# EAGLE library part PCA9685 (library adafruit)
PCA9685 - 16 Channel 12-Bit I2C PWM Controller 5.0V tolerant 16 channel, 12-bit I2C PWM controller with 25mA per output (max. 400mA total) Digikey: 568-5931-1-ND
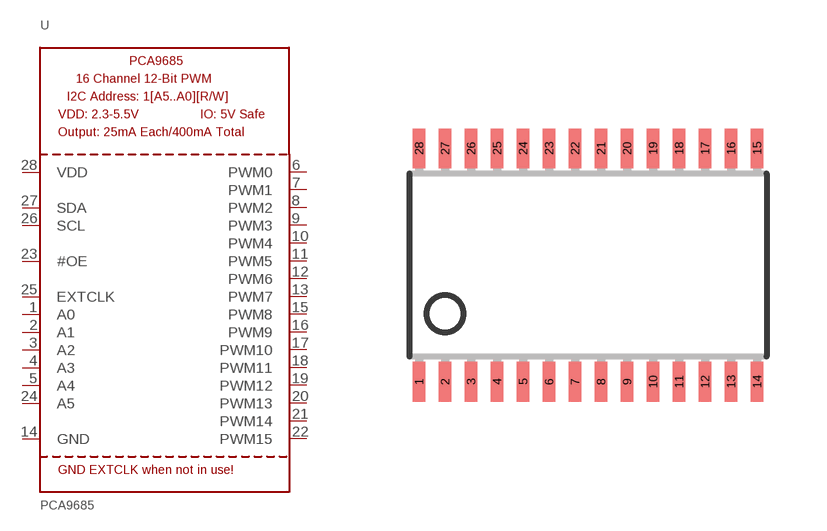
[diagram p107: symbol with the pads of TSSOP28; footprint TSSOP28]

Designator prefix U

## PCA9685  [TSSOP28]
1  A0
2  A1
3  A2
4  A3
5  A4
6  PWM0  out
7  PWM1  out
8  PWM2  out
9  PWM3  out
10  PWM4  out
11  PWM5  out
12  PWM6  out
13  PWM7  out
14  GND  pwr
15  PWM8  out
16  PWM9  out
17  PWM10  out
18  PWM11  out
19  PWM12  out
20  PWM13  out
21  PWM14  out
22  PWM15  out
23  #OE  in
24  A5
25  EXTCLK  in
26  SCL
27  SDA
28  VDD  pwr

## Footprint TSSOP28 (pad centres in mm)
smd 0.305 x 0.991: 1 -4.225,-2.918; 2 -3.575,-2.918; 3 -2.925,-2.918; 4 -2.275,-2.918; 5 -1.625,-2.918; 6 -0.975,-2.918; 7 -0.325,-2.918; 8 0.325,-2.918; 9 0.975,-2.918; 10 1.625,-2.918; 11 2.275,-2.918; 12 2.925,-2.918; 13 3.575,-2.918; 14 4.225,-2.918; 15 4.225,2.918; 16 3.575,2.918; 17 2.925,2.918; 18 2.275,2.918; 19 1.625,2.918; 20 0.975,2.918; 21 0.325,2.918; 22 -0.325,2.918; 23 -0.975,2.918; 24 -1.625,2.918; 25 -2.275,2.918; 26 -2.925,2.918; 27 -3.575,2.918; 28 -4.225,2.918